# Altium schematic symbol library TL2575-15IKTTR.SchLib: 2 symbols
Pins are listed as number, name and electrical type; pins without a type are passive.

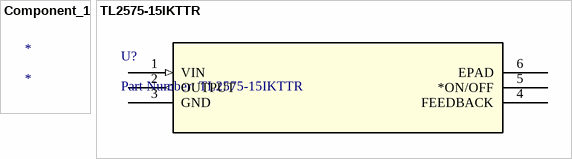
[diagram p0: symbols Component_1 to TL2575-15IKTTR]

## Component_1
designator *

## TL2575-15IKTTR
designator U?, comment Part Number: TL2575-15IKTTR
1-A Simple Step-Down Switching Voltage Regulators; Vendor: Texas Instruments; PACKAGE_DESIGNATOR: KTT; PIN_COUNT: 5; FAMILY_NAME: STEP-DOWN REGULATOR; INDUSTRY_STD_PKG_TYPE: DDPAK/TO-263; Manufacturer_Part_Number: TL2575-15IKTTR; GENERIC_PART_NUMBER: TL2575-15; Datasheet_URL: http://www.ti.com/lit/gpn/TL2575-15; Manufacturer: Texas Instruments; Copyright: Copyright (C) 2018 Accelerated Designs. All rights reserved; RefDes: RefDes; Type: DEV; Value: Value
footprint KTT5_6P22X6P86
pins: 1 VIN (in), 2 OUTPUT (out), 3 GND (power), 4 FEEDBACK, 5 *ON/OFF, 6 EPAD